# EAGLE library part TCA9546A (library Group_07_Library)
TCA9546A The TCA9546A is a quad 2 bidirectional translating switch controlled via the I C bus. The SCL/SDA upstream pair fans out to four downstream pairs, or channels. Any individual SCn/SDn channel or combination of channels can be selected, determined by the contents of the programmable control register. An active-low reset (RESET) input allows the TCA9546A to recover from a situation in which one of the downstream I2C buses is stuck in a low state. Pulling RESET low resets the I2C state machine and causes all the channels to be deselected, as does the internal power-on reset function. The pass gates of the switches are constructed such that the VCC pin can be used to limit the maximum high voltage, which will be passed by the TCA9546A. This allows the use of different bus voltages on each pair, so that 1.8-V, 2.5-V, or 3.3-V parts can communicate with 5-V parts without any additional protection. External pull-up resistors pull the bus up to the desired voltage level for each channel. All I/O pins are 5.5-V tolerant. Available packages: TSSOP16
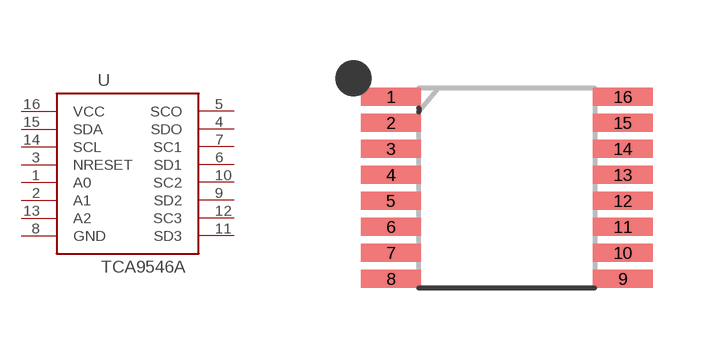
[diagram p0: symbol with the pads of TSSOP16; footprint TSSOP16]

Designator prefix -

## TCA9546ASO16  [TSSOP16]
1  A0
2  A1
3  NRESET
4  SDO
5  SCO
6  SD1
7  SC1
8  GND
9  SD2
10  SC2
11  SD3
12  SC3
13  A2
14  SCL
15  SDA
16  VCC

## Footprint TSSOP16 (pad centres in mm)
smd 1.5 x 0.45: 1 -2.9,2.275; 2 -2.9,1.625; 3 -2.9,0.975; 4 -2.9,0.325; 5 -2.9,-0.325; 6 -2.9,-0.975; 7 -2.9,-1.625; 8 -2.9,-2.275; 9 2.9,-2.275; 10 2.9,-1.625; 11 2.9,-0.975; 12 2.9,-0.325; 13 2.9,0.325; 14 2.9,0.975; 15 2.9,1.625; 16 2.9,2.275